# EAGLE library part AT90USB647-MU (library Atmel)
8-bit AVR Microcontroller with 64/128K Bytes of ISP Flash and USB Controller
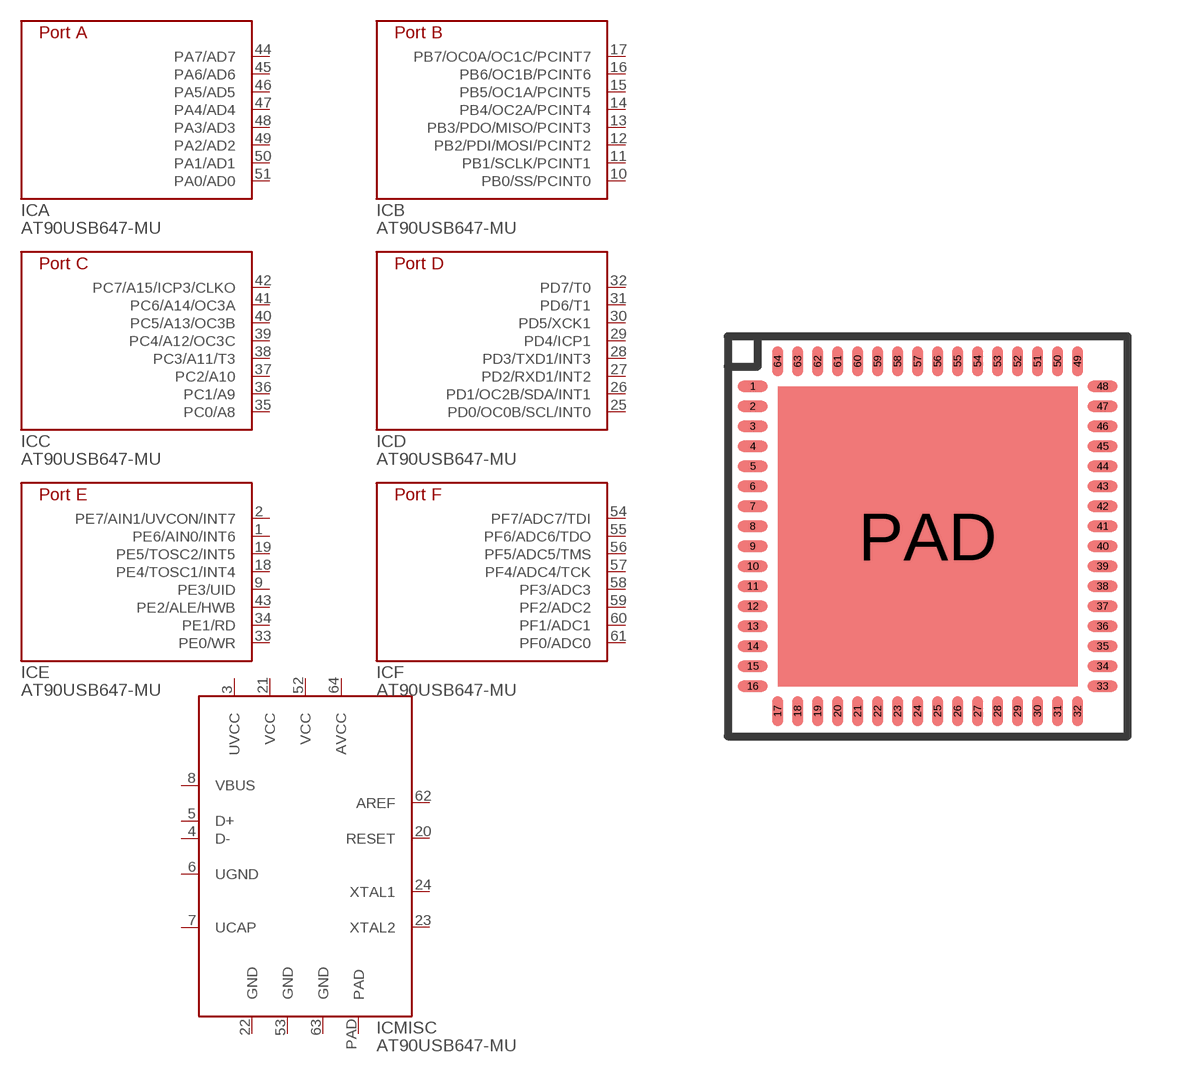
[diagram p12: symbol with the pads of QFN64; footprint QFN64]

Designator prefix IC; gates A=AT90USB647-A B=AT90USB647-B C=AT90USB647-C D=AT90USB647-D E=AT90USB647-E F=AT90USB647-F MISC=AT90USB647-MISC-PAD

## AT90USB647-MU  [QFN64]
1  E:PE6/AIN0/INT6
2  E:PE7/AIN1/UVCON/INT7
3  MISC:UVCC
4  MISC:D-
5  MISC:D+
6  MISC:UGND
7  MISC:UCAP
8  MISC:VBUS
9  E:PE3/UID
10  B:PB0/SS/PCINT0
11  B:PB1/SCLK/PCINT1
12  B:PB2/PDI/MOSI/PCINT2
13  B:PB3/PDO/MISO/PCINT3
14  B:PB4/OC2A/PCINT4
15  B:PB5/OC1A/PCINT5
16  B:PB6/OC1B/PCINT6
17  B:PB7/OC0A/OC1C/PCINT7
18  E:PE4/TOSC1/INT4
19  E:PE5/TOSC2/INT5
20  MISC:RESET
21  MISC:VCC
22  MISC:GND
23  MISC:XTAL2
24  MISC:XTAL1
25  D:PD0/OC0B/SCL/INT0
26  D:PD1/OC2B/SDA/INT1
27  D:PD2/RXD1/INT2
28  D:PD3/TXD1/INT3
29  D:PD4/ICP1
30  D:PD5/XCK1
31  D:PD6/T1
32  D:PD7/T0
33  E:PE0/WR
34  E:PE1/RD
35  C:PC0/A8
36  C:PC1/A9
37  C:PC2/A10
38  C:PC3/A11/T3
39  C:PC4/A12/OC3C
40  C:PC5/A13/OC3B
41  C:PC6/A14/OC3A
42  C:PC7/A15/ICP3/CLKO
43  E:PE2/ALE/HWB
44  A:PA7/AD7
45  A:PA6/AD6
46  A:PA5/AD5
47  A:PA4/AD4
48  A:PA3/AD3
49  A:PA2/AD2
50  A:PA1/AD1
51  A:PA0/AD0
52  MISC:VCC
53  MISC:GND
54  F:PF7/ADC7/TDI
55  F:PF6/ADC6/TDO
56  F:PF5/ADC5/TMS
57  F:PF4/ADC4/TCK
58  F:PF3/ADC3
59  F:PF2/ADC2
60  F:PF1/ADC1
61  F:PF0/ADC0
62  MISC:AREF
63  MISC:GND
64  MISC:AVCC
PAD  MISC:PAD

## Footprint QFN64 (pad centres in mm)
smd 0.75 x 0.28: 1 -4.375,3.75; 2 -4.375,3.25; 3 -4.375,2.75; 4 -4.375,2.25; 5 -4.375,1.75; 6 -4.375,1.25; 7 -4.375,0.75; 8 -4.375,0.25; 9 -4.375,-0.25; 10 -4.375,-0.75; 11 -4.375,-1.25; 12 -4.375,-1.75; 13 -4.375,-2.25; 14 -4.375,-2.75; 15 -4.375,-3.25; 16 -4.375,-3.75; 33 4.375,-3.75; 34 4.375,-3.25; 35 4.375,-2.75; 36 4.375,-2.25; 37 4.375,-1.75; 38 4.375,-1.25; 39 4.375,-0.75; 40 4.375,-0.25; 41 4.375,0.25; 42 4.375,0.75; 43 4.375,1.25; 44 4.375,1.75; 45 4.375,2.25; 46 4.375,2.75; 47 4.375,3.25; 48 4.375,3.75
smd 0.28 x 0.75: 17 -3.75,-4.375; 18 -3.25,-4.375; 19 -2.75,-4.375; 20 -2.25,-4.375; 21 -1.75,-4.375; 22 -1.25,-4.375; 23 -0.75,-4.375; 24 -0.25,-4.375; 25 0.25,-4.375; 26 0.75,-4.375; 27 1.25,-4.375; 28 1.75,-4.375; 29 2.25,-4.375; 30 2.75,-4.375; 31 3.25,-4.375; 32 3.75,-4.375; 49 3.75,4.375; 50 3.25,4.375; 51 2.75,4.375; 52 2.25,4.375; 53 1.75,4.375; 54 1.25,4.375; 55 0.75,4.375; 56 0.25,4.375; 57 -0.25,4.375; 58 -0.75,4.375; 59 -1.25,4.375; 60 -1.75,4.375; 61 -2.25,4.375; 62 -2.75,4.375; 63 -3.25,4.375; 64 -3.75,4.375
smd 7.5 x 7.5: PAD 0,0